# Altium schematic symbol library SDEC944-xC.SCHLIB: 133 symbols (part 1 of 2)
Pins are listed as number, name and electrical type; pins without a type are passive.

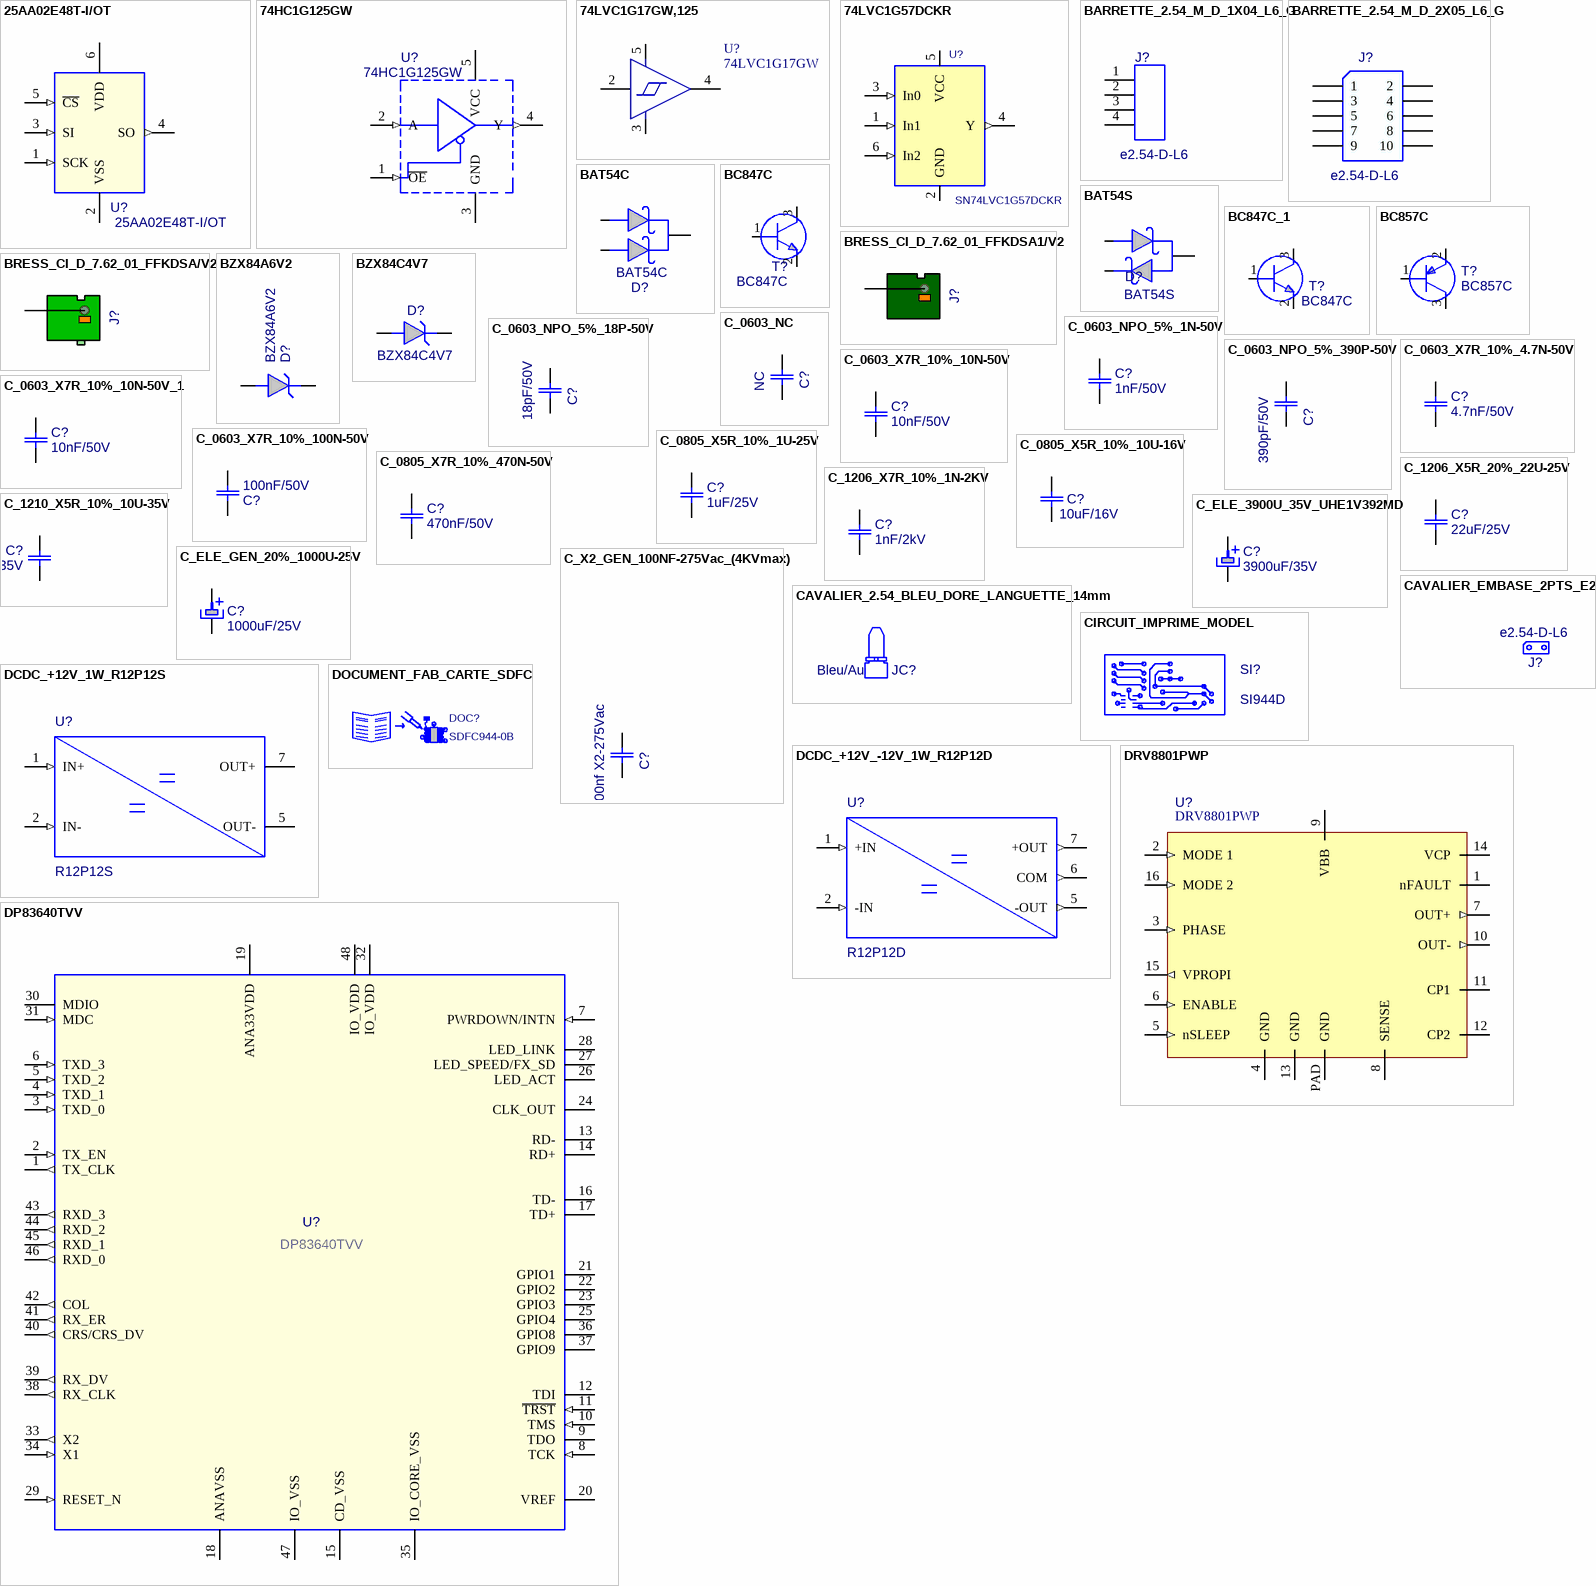
[diagram p0: symbols 25AA02E48T-I/OT to DRV8801PWP]

## 25AA02E48T-I/OT
designator U?
EEPROM, avec identifiant EUI-48 (adresse MAC), 2kbits, Vs=1.8~5.5V, 10MHz, CMS; Creation: CHD(10/03/09); Verification: LJ; Reference: 000492/00; Boitier: SOT23_6L; Coeff: 1; Fabricant: Microchip; Remarque: *; ComponentLink1URL: o:\_Documentation\Datasheets\MicroChip\25AA02E48.pdf; ComponentLink2URL: o:\_Documentation\Datasheets\_Boitiers\ACTIF_CMS\SOT & TSOT\SOT23_6_(Schneider).pdf; Config: *; ComponentLink1Description: Datasheet; ComponentLink2Description: Datasheet Boitier; Ref Fab: 25AA02E48T-I/OT; Value: 25AA02E48T-I/OT
footprint SOT23_6L
pins: 1 SCK (in), 2 VSS (power), 3 SI (in), 4 SO (out), 5 ~{CS} (in), 6 VDD (power)

## 74HC1G125GW
designator U?
Buffer driver de ligne non-inverseur simple, 3 états, CMOS, Picogate, CMS; Creation: PDP (28/09/12); Boitier: SOT353; Remarque: {Remarque}; Coeff: 1; Fabricant: NXP; Verification: *; ComponentLink1URL: o:\_Documentation\Datasheets\NXP\74HC_HCT1G125.pdf; ComponentLink2URL: o:\_Documentation\Datasheets\_Boitiers\ACTIF_CMS\SOT & TSOT\SOT353_5_reflow_(NXP).pdf; Config: *; ComponentLink1Description: Datasheet; ComponentLink2Description: Datasheet Boitier; Ref Fab: 74HC1G125GW; Supplier 1: Mouser; Supplier Part Number 1: 771-74HC1G125GW-G; Supplier 2: Farnell; Supplier Part Number 2: 1867065; Value: 74HC1G125GW
footprint SOT353
pins: 1 hidden, 1 ~{OE} (in), 2 A (in), 3 GND (power), 4 Y (out), 5 VCC (power)

## 74LVC1G17GW,125
designator U?, comment 74LVC1G17GW
IC BUFFER SCHMIT TRIG SOT23-5; Manufacturer: NXP Semiconductors; Manufacturer Part Number: 74LVC1G17GW,125; Logic Type: Buffer, Non-Inverting; Number of Elements: 1; Input Type: Schmitt Trigger; Output Type: Push-Pull; Current - Output High, Low: 32mA, 32mA; Voltage - Supply: 1.65 V ~ 5.5 V; Supplier 1: Digi-Key; RoHS: RoHS Compliant; Category: Integrated Circuits (ICs); Stock 1: 36642; Pricing 1: 1=0.32, 10=0.258, 100=0.1368, 500=0.08994, 1000=0.06128 (USD); Packaging: Cut Tape (CT); Part Status: Active; Number of Bits per Element: 1; Operating Temperature: -40°C ~ 125°C (TA); Mounting Type: Surface Mount; Package / Case: 5-TSSOP, SC-70-5, SOT-353; Supplier Device Package: 5-TSSOP; ComponentLink1URL: http://www.nxp.com/documents/data_sheet/74LVC1G17.pdf; ComponentLink1Description: http://www.nxp.com/documents/data_sheet/74LVC1G17.pdf; Supplier Part Number 1: 568-4613-1-ND
footprint SOT353
pins: 1 NC, 2 A, 3 VCC, 4 Y, 5 VCC

## 74LVC1G57DCKR
designator U?  value SN74LVC1G57DCKR  (hidden comment: 74LVC1G57DCKR)
Porte logique multifonction, AND/OR/NAND/NOR/XNOR/INV/BUFFER, LVC, CMS SC70_6; Creation: PDP (31/08/2012); Remarque: {Remarque}; Coeff: 1; Fabricant: Texas Instruments; Verification: *; Boitier: SC70_6; ComponentLink1URL: o:\_Documentation\Datasheets\Texas\SN74LVC1G57.pdf; ComponentLink2URL: o:\_Documentation\Datasheets\_Boitiers\ACTIF_CMS\SC\SC70_6_e0,65_(NSC).pdf; Config: *; ComponentLink1Description: Datasheet; ComponentLink2Description: Datasheet Boitier; Ref Fab: SN74LVC1G57DCKR; Supplier 1: Farnell; Supplier Part Number 1: 1470833; Supplier 2: Mouser; Supplier Part Number 2: 595-SN74LVC1G57DCKR
footprint SC70_6
pins: 1 In1 (in), 2 GND (power), 3 In0 (in), 4 Y (out), 5 VCC (power), 6 In2 (in)

## BARRETTE_2.54_M_D_1X04_L6_G
designator J?  value e2.54-D-L6  (hidden comment: BARRETTE_2.54_M_D_1X04_L6_G)
Barrette, e2.54, mâle, 1x4 picots 0.635², droit, long. contact 6, isol. 2.6mm, doré; Creation: LJ; Reference: 000048/04; Boitier: 1x04_e2.54_drt_L6mm; Remarque: Longueur contact idéale pour accueillir HE10; Verification: LJ (13/11/03); Coeff: 1; Fabricant: Samtec; Ref Fab: TSW-104-24-L-S; ComponentLink1URL: o:\_Documentation\Datasheets\Samtec\TSW_TH.PDF; Config: *; ComponentLink1Description: Datasheet; ComponentLink2Description: Datasheet Boitier; Supplier 1: Farnell; Supplier Part Number 1: 2039591
footprint BAR_M_1X04D_L6_IS2.6_E2.54_G
pins: 1, 2, 3, 4

## BARRETTE_2.54_M_D_2X05_L6_G
designator J?  value e2.54-D-L6  (hidden comment: BARRETTE_2.54_M_D_2X05_L6_G)
Barrette, e2.54, mâle, 2x5 picots 0.635², droit, long. contact 6, isol. 2.6mm, doré; Creation: LJ; Reference: 000221/05; Boitier: 2x5_e2.54_drt_L6mm; Remarque: Longueur contact idéale pour accueillir HE10; Verification: LJ (13/11/03); Coeff: 1; Fabricant: Samtec; Ref Fab: TSW-105-24-L-D; ComponentLink1URL: o:\_Documentation\Datasheets\Samtec\TSW_TH.PDF; Config: *; ComponentLink1Description: Datasheet; ComponentLink2Description: Datasheet Boitier; Supplier 1: Farnell; Supplier Part Number 1: 2029785
footprint BAR_M_2X05D_L6_IS2.6_E2.54_G
pins: 1, 2, 3, 4, 5, 6, 7, 8, 9, 10

## BAT54C
designator D?
Diode Schottky double, BAT54 cathode com, Vrrm=30V, If=300mA, Vf=0.4Vmax, CMS; Creation: LJ (14/05/02); Reference: 000597/00; Boitier: SOT23_3L; Remarque: {Remarque}; Coeff: 1; Fabricant: NXP; Verification: LJ (14/05/02); ComponentLink1URL: O:\_Documentation\Datasheets\NXP\BAT54_series.pdf; ComponentLink2URL: o:\_Documentation\Datasheets\_BOITIERS\ACTIF_CMS\SOT\SOT_23_3P_(Schneider).PDF; Config: *; ComponentLink1Description: Datasheet; ComponentLink2Description: Datasheet Boitier; Ref Fab: BAT54C; Supplier 1: Farnell; Supplier Part Number 1: 1081192; Value: BAT54C
footprint SOT23_3L_ReflowSoldering
footprint SOT23_3L_WaveSoldering
pins: 1, 2, 3
1 alternate drawing of the same symbol

## BAT54S
designator D?
Diode Schottky double, BAT54 en série, Vrrm=30V, If=200mA, Vf=0.4Vmax, CMS; Creation: JMP 05/09/2002; Verification: GO (26/09/02); Reference: 000206/00; Boitier: SOT23_3L; Remarque: {Remarque}; Coeff: 1; Fabricant: NXP; ComponentLink1URL: O:\_Documentation\Datasheets\NXP\BAT54_series.pdf; ComponentLink2URL: o:\_Documentation\Datasheets\_BOITIERS\ACTIF_CMS\SOT\SOT_23_3P_(Schneider).PDF; Config: *; ComponentLink1Description: Datasheet; ComponentLink2Description: Datasheet Boitier; Ref Fab: BAT54S; Supplier 1: Farnell; Supplier Part Number 1: 1081194; Value: BAT54S; Supplier 2: Mouser; Supplier Part Number 2: 771-BAT54S-T/R
footprint SOT23_3L_ReflowSoldering
footprint SOT23_3L_WaveSoldering
pins: 1, 2, 3
1 alternate drawing of the same symbol

## BC847C
designator T?
Transistor NPN, Vce=50V, Ic=0.1A, hfe=420~800, 0.25W, CMS; Creation: GO (08/07/05); Verification: LJ (21/07/05); Reference: 000329/00; Boitier: SOT23_3L; Remarque: Complementaires aux BC856-860; Fabricant: NXP; Coeff: 1; Ref Fab: BC847C; ComponentLink1URL: O:\_Documentation\Datasheets\NXP\BC847.pdf; ComponentLink2URL: o:\_Documentation\Datasheets\_BOITIERS\ACTIF_CMS\SOT\SOT_23_3P_(Schneider).PDF; Config: *; ComponentLink1Description: Datasheet; Value: BC847C; Supplier 1: Farnell; Supplier Part Number 1: 1081235; ComponentLink2Description: Datasheet Boitier
footprint SOT23_3L_ReflowSoldering
footprint SOT23_3L_WaveSoldering
pins: 1 B, 2 E, 3 C

## BC847C_1
designator T?, comment BC847C
Transistor NPN, Vce=50V, Ic=0.1A, hfe=420~800, 0.25W, CMS; Creation: GO (08/07/05); Verification: LJ (21/07/05); Reference: 000329/00; Boitier: SOT23_3L; Remarque: Complementaires aux BC856-860; Fabricant: NXP; Coeff: 1; Ref Fab: BC847C; ComponentLink1URL: O:\_Documentation\Datasheets\NXP\BC847.pdf; ComponentLink2URL: o:\_Documentation\Datasheets\_BOITIERS\ACTIF_CMS\SOT\SOT_23_3P_(Schneider).PDF; Config: *; ComponentLink1Description: Datasheet; Value: BC847C; Supplier 1: Farnell; Supplier Part Number 1: 1081235; ComponentLink2Description: Datasheet Boitier
footprint SOT23_3L_ReflowSoldering
pins: 1 B, 2 E, 3 C

## BC857C
designator T?
Transistor PNP, Vce=45V, Ic=0.1A, hfe=420~800, 0.3W, CMS; Creation: LJ; Verification: LJ (27/10/03); Reference: 000483/00; Boitier: SOT23_3L; Remarque: Complementaires aux BC846-850; Coeff: 1; Fabricant: NXP; ComponentLink1URL: O:\_Documentation\Datasheets\NXP\BC856_BC857_BC858.pdf; ComponentLink2URL: o:\_Documentation\Datasheets\_BOITIERS\ACTIF_CMS\SOT\SOT_23_3P_(Schneider).PDF; Config: *; ComponentLink1Description: Datasheet; Ref Fab: BC857C; ComponentLink2Description: Datasheet Boitier; Supplier 1: Farnell; Supplier Part Number 1: 8734771; Value: BC857C
footprint SOT23_3L_ReflowSoldering
footprint SOT23_3L_WaveSoldering
pins: 1 B, 2 E, 3 C

## BRESS_CI_D_7.62_01_FFKDSA1/V2
designator J?  (value not drawn)
Bornier à connexion par ressorts/déconnexion par levier, série FFKDSA1/V2, e7.62, 1x1pts, droit, juxtaposable, 500V/17.5A, AWG22~16, Vert/Orange; Creation: LJ (21/11/11); Boitier: 7.62x10_h15.8_e7.62_p1.3mm; Remarque: {Remarque}; Fabricant: Phoenix Contact; Ref Fab: 1790487; Coeff: 1; Value: FFKDSA1/V2-7,62; Verification: *; ComponentLink1URL: o:\_Documentation\Datasheets\Phoenix\FFKDSA1-V2_7,62_1790487.pdf; ComponentLink2URL: o:\_Documentation\Datasheets\_BOITIERS\; Config: *; ComponentLink1Description: Datasheet; ComponentLink2Description: Datasheet
footprint BRESS_FFKDSA1/V2-7,62_P1.3
footprint BRESS_FFKDSA1/V2-7,62_P1.4
footprint BRESS_FFKDSA1/V2-7,62_P1.3_PAD_REDUIT (taille de pad reduit)
pins: 1, 2

## BRESS_CI_D_7.62_01_FFKDSA/V2
designator J?  (value not drawn)
Bornier à connexion par ressorts/déconnexion par levier, série FFKDSA/V2, e7.62, 1x1pts, droit, juxtaposable, 500V/17.5A, AWG22~16, Vert/Orange; Creation: LJ (21/11/11); Boitier: 7.62x10_h15.8_e7.62_p1.3mm; Remarque: {Remarque}; Fabricant: Phoenix Contact; Ref Fab: 1790377; Coeff: 1; Value: FFKDSA/V2-7,62; Verification: *; ComponentLink1URL: o:\_Documentation\Datasheets\Phoenix\FFKDSA-V2_7,62_1790377.pdf; ComponentLink2URL: o:\_Documentation\Datasheets\_BOITIERS\; Config: *; ComponentLink1Description: Datasheet; ComponentLink2Description: Datasheet
footprint BRESS_FFKDSA/V2-7,62_P1.3
footprint BRESS_FFKDSA/V2-7,62_P1.4
pins: 1, 2

## BZX84A6V2
designator D?
Diode Zener, série BZX84A, 0.3W, +/-5%, 6.2V, CMS; Creation: PDP (19/09/12); Boitier: SOT23_3L; Remarque: {Remarque}; Coeff: 1; Fabricant: NXP; ComponentLink1URL: o:\_Documentation\Datasheets\NXP\BZX84_SERIES.pdf; ComponentLink2URL: o:\_Documentation\Datasheets\_BOITIERS\ACTIF_CMS\SOT\SOT_23_3P_(Schneider).PDF; Config: *; ComponentLink1Description: Datasheet; ComponentLink2Description: Datasheet Boitier; Ref Fab: BZX84A6V2; Supplier 1: Mouser; Supplier Part Number 1: 771-BZX84-A6V2,215; Value: BZX84A6V2
footprint SOT23_3L_ReflowSoldering
footprint SOT23_3L_WaveSoldering
pins: 1, 2 hidden, 3

## BZX84C4V7
designator D?
Diode Zener, série BZX84C, 0.3W, +/-5%, 4.7V, CMS; Creation: LJ; Verification: LJ (25/02/02); Reference: 000212/00; Boitier: SOT23_3L; Remarque: {Remarque}; Coeff: 1; Fabricant: NXP; ComponentLink1URL: o:\_Documentation\Datasheets\NXP\BZX84_SERIES.pdf; ComponentLink2URL: o:\_Documentation\Datasheets\_BOITIERS\ACTIF_CMS\SOT\SOT_23_3P_(Schneider).PDF; Config: *; ComponentLink1Description: Datasheet; ComponentLink2Description: Datasheet Boitier; Ref Fab: BZX84C4V7; Supplier 1: Farnell; Supplier Part Number 1: 1081428; Supplier 2: Mouser; Supplier Part Number 2: 771-BZX84-C4V7-T/R; Value: BZX84C4V7
footprint SOT23_3L_ReflowSoldering
footprint SOT23_3L_WaveSoldering
pins: 1, 2 hidden, 3

## C_0603_NC
designator C?  value NC  (hidden comment: C_0603_NC)
Condensateur, CMS 0603, NC; Creation: PDP (30/08/12); Boitier: 0603; Coeff: 1; ComponentLink2URL: o:\_Documentation\Datasheets\_BOITIERS\PASSIF_CMS\; ComponentLink2Description: Datasheet Boitier
footprint 0603_ReflowSoldering_CAP
footprint 0603_WaveSoldering_CAP
pins: 1, 2

## C_0603_NPO_5%_1N-50V
designator C?  value 1nF/50V  (hidden comment: C_0603_NPO_5%_1N-50V)
Condensateur céramique, NPO, 5%, CMS 0603; Creation: LJ; Reference: 001809/00; Boitier: 0603; Remarque: {Remarque}; Coeff: 1; Fabricant: AVX; Ref Fab: 06035A102JAT2A; ComponentLink1URL: o:\_Documentation\Datasheets\BC_Components\Condo_CMS_NPO-X7R-Y5V.pdf; ComponentLink2URL: o:\_Documentation\Datasheets\_BOITIERS\PASSIF_CMS\; Config: *; ComponentLink1Description: Datasheet; ComponentLink2Description: Datasheet Boitier; Supplier 1: Mouser; Supplier Part Number 1: 581-06035A102J
footprint 0603_ReflowSoldering_CAP
footprint 0603_WaveSoldering_CAP
pins: 1, 2

## C_0603_NPO_5%_18P-50V
designator C?  value 18pF/50V  (hidden comment: C_0603_NPO_5%_18P-50V)
Condensateur céramique, NPO, 5%, CMS 0603, 18pF/50V; Creation: FB (04/07/12); Boitier: 0603; Remarque: {Remarque}; Fabricant: Kemet; Ref Fab: C0603C180J5GAC; Coeff: 1; ComponentLink2URL: o:\_Documentation\Datasheets\_BOITIERS\PASSIF_CMS\; Config: *; ComponentLink1Description: Datasheet; ComponentLink2Description: Datasheet Boitier; Supplier 1: Farnell; Supplier Part Number 1: 1414620
footprint 0603_ReflowSoldering_CAP
footprint 0603_WaveSoldering_CAP
pins: 1, 2

## C_0603_NPO_5%_390P-50V
designator C?  value 390pF/50V  (hidden comment: C_0603_NPO_5%_390P-50V)
Condensateur céramique, NPO, 5%, CMS 0603; Creation: CHD; Boitier: 0603; Remarque: {Remarque}; Coeff: 1; Fabricant: Kemet; Ref Fab: C0603C391J5GAC; ComponentLink1URL: o:\_Documentation\Datasheets\Kemet\Condos_Ceramic_CMS.pdf; ComponentLink2URL: o:\_Documentation\Datasheets\_BOITIERS\PASSIF_CMS\; Config: *; ComponentLink1Description: Datasheet; ComponentLink2Description: Datasheet Boitier; Supplier 1: Farnell; Supplier 2: Mouser; Supplier Part Number 1: 1414638; Supplier Part Number 2: 80-C0603C391J5G
footprint 0603_ReflowSoldering_CAP
footprint 0603_WaveSoldering_CAP
pins: 1, 2

## C_0603_X7R_10%_4.7N-50V
designator C?  value 4.7nF/50V  (hidden comment: C_0603_X7R_10%_4.7N-50V)
Condensateur céramique, X7R, 10%, CMS 0603, 4,7nF/50V; Creation: PDP (30/08/12); Boitier: 0603; Remarque: {Remarque}; Fabricant: Kemet; Ref Fab: C0603C472K5RAC; Coeff: 1; ComponentLink1URL: O:\_Documentation\Datasheets\Kemet\Condos_Ceramic_CMS.pdf; ComponentLink2URL: o:\_Documentation\Datasheets\_BOITIERS\PASSIF_CMS\; Config: *; ComponentLink1Description: Datasheet; ComponentLink2Description: Datasheet Boitier; Supplier 1: Farnell; Supplier Part Number 1: 4528384; Supplier 2: Mouser; Supplier Part Number 2: 80-C0603C472K5RAUTO
footprint 0603_ReflowSoldering_CAP
footprint 0603_WaveSoldering_CAP
pins: 1, 2

## C_0603_X7R_10%_10N-50V
designator C?  value 10nF/50V  (hidden comment: C_0603_X7R_10%_10N-50V)
Condensateur céramique, X7R, 10%, CMS 0603; Creation: CHD; Boitier: 0603; Remarque: {Remarque}; Coeff: 1; Fabricant: Kemet; Ref Fab: C0603C103K5RAC; ComponentLink1URL: o:\_Documentation\Datasheets\Kemet\Condos_Ceramic_CMS.pdf; ComponentLink2URL: o:\_Documentation\Datasheets\_BOITIERS\PASSIF_CMS\; Config: *; ComponentLink1Description: Datasheet; ComponentLink2Description: Datasheet Boitier; Supplier 1: Farnell; Supplier Part Number 1: 1414609
footprint 0603_ReflowSoldering_CAP
footprint 0603_WaveSoldering_CAP
pins: 1, 2
1 alternate drawing of the same symbol

## C_0603_X7R_10%_10N-50V_1
designator C?, comment value 10nF/50V  (hidden comment: C_0603_X7R_10%_10N-50V)
Condensateur céramique, X7R, 10%, CMS 0603; Creation: CHD; Boitier: 0603; Remarque: {Remarque}; Coeff: 1; Fabricant: Kemet; Ref Fab: C0603C103K5RAC; ComponentLink1URL: o:\_Documentation\Datasheets\Kemet\Condos_Ceramic_CMS.pdf; ComponentLink2URL: o:\_Documentation\Datasheets\_BOITIERS\PASSIF_CMS\; Config: *; ComponentLink1Description: Datasheet; ComponentLink2Description: Datasheet Boitier; Supplier 1: Farnell; Supplier Part Number 1: 1414609
footprint 0603_ReflowSoldering_CAP
pins: 1, 2
1 alternate drawing of the same symbol

## C_0603_X7R_10%_100N-50V
designator C?  value 100nF/50V  (hidden comment: C_0603_X7R_10%_100N-50V)
Condensateur céramique, X7R, 10%, CMS 0603, 100nF/50V; Creation: FB (29/02/12); Boitier: 0603; Remarque: {Remarque}; Fabricant: Kemet; Ref Fab: C0603C104K5RAC; Coeff: 1; ComponentLink1URL: O:\_Documentation\Datasheets\Kemet\Condos_Ceramic_CMS.pdf; ComponentLink2URL: o:\_Documentation\Datasheets\_BOITIERS\PASSIF_CMS\; Config: *; ComponentLink1Description: Datasheet; ComponentLink2Description: Datasheet Boitier; Supplier 1: Farnell; Supplier Part Number 1: 1288255
footprint 0603_ReflowSoldering_CAP
footprint 0603_WaveSoldering_CAP
pins: 1, 2

## C_0805_X5R_10%_1U-25V
designator C?  value 1uF/25V  (hidden comment: C_0805_X5R_10%_1U-25V)
Condensateur céramique, X5R, 10%, CMS 0805; Creation: FB (07/03/12); Reference: 001834/00; Boitier: 0805; Remarque: {Remarque}; Coeff: 1; Fabricant: AVX; Ref Fab: 08053D105KAT2A; Verification: *; ComponentLink1URL: O:\_Documentation\Datasheets\AVX\Condensateurs_CMS_Ceramic_X5R.pdf; ComponentLink2URL: o:\_Documentation\Datasheets\_Boitiers\PASSIF_CMS\RC_0805_(2x1,25)_(Schneider).pdf; Config: *; ComponentLink1Description: Datasheet; ComponentLink2Description: Datasheet Boitier; Supplier Part Number 1: 1327695; Supplier Part Number 2: 6983409; Supplier 1: Farnell; Supplier 2: Radiospares
footprint 0805_ReflowSoldering_CAP
footprint 0805_WaveSoldering_CAP
pins: 1, 2

## C_0805_X5R_10%_10U-16V
designator C?  value 10uF/16V  (hidden comment: C_0805_X5R_10%_10U-16V)
Condensateur céramique, X5R, 10%, CMS 0805, 10uF/16V; Creation: FB (02/10/12); Boitier: 0805; Remarque: {Remarque}; Coeff: 1; Fabricant: Kemet; Ref Fab: C0805C106K4PAC; Verification: *; ComponentLink1URL: O:\_Documentation\Datasheets\Kemet\Condos_Ceramic_CMS.pdf; ComponentLink2URL: o:\_Documentation\Datasheets\_Boitiers\PASSIF_CMS\RC_0805_(2x1,25)_(Schneider).pdf; Config: *; ComponentLink1Description: Datasheet; ComponentLink2Description: Datasheet Boitier
footprint 0805_ReflowSoldering_CAP
footprint 0805_WaveSoldering_CAP
pins: 1, 2

## C_0805_X7R_10%_470N-50V
designator C?  value 470nF/50V  (hidden comment: C_0805_X7R_10%_470N-50V)
Condensateur céramique, X7R, 10%, CMS 0805, 470nF/50V; Creation: FB (02/10/12); Boitier: 0805; Remarque: {Remarque}; Coeff: 1; Fabricant: Kemet; Ref Fab: C0805C471K5RAC; Verification: *; ComponentLink1URL: O:\_Documentation\Datasheets\Kemet\Condos_Ceramic_CMS.pdf; ComponentLink2URL: o:\_Documentation\Datasheets\_BOITIERS\PASSIF_CMS\RC_0805_(2x1,25)_(Schneider).PDF; Config: *; ComponentLink1Description: Datasheet; ComponentLink2Description: Datasheet Boitier; Supplier 1: Mouser; Supplier Part Number 1: 80-C0805C471K5R
footprint 0805_ReflowSoldering_CAP
footprint 0805_WaveSoldering_CAP
pins: 1, 2

## C_1206_X5R_20%_22U-25V
designator C?  value 22uF/25V  (hidden comment: C_1206_X5R_20%_22U-25V)
Condensateur céramique, X5R, 20%, CMS 1206, 22uF/25V; Creation: ZA (18/12/13); Reference: /01; Boitier: 1206; Remarque: {Remarque}; Fabricant: TDK; Coeff: 1; Ref Fab: C3216X5R1E226M160AB; Verification: *; ComponentLink1URL: O:\_Documentation\Datasheets\TDK\general_B11.pdf; ComponentLink2URL: o:\_Documentation\Datasheets\_BOITIERS\PASSIF_CMS\; ComponentLink1Description: Datasheet; ComponentLink2Description: Datasheet Boitier; Supplier 1: Farnell; Supplier Part Number 1: 2354129; Supplier 2: Mouser; Supplier Part Number 2: 810-C3216X5R1E226M
footprint 1206_ReflowSoldering_CAP
footprint 1206_WaveSoldering_CAP
pins: 1, 2

## C_1206_X7R_10%_1N-2KV
designator C?  value 1nF/2kV  (hidden comment: C_1206_X7R_10%_1N-2KV)
Condensateur céramique, X7R, 10%, CMS 1206; Creation: LJ (29/06/10); Reference: 001425/00; Boitier: 1206; Remarque: {Remarque}; Coeff: 1; Fabricant: Kemet; Ref Fab: C1206C102KGRAC; ComponentLink1URL: O:\_Documentation\Datasheets\Kemet\Condos_Ceramic_HighVoltage_CMS.pdf; ComponentLink2URL: o:\_Documentation\Datasheets\_Boitiers\PASSIF_CMS\; Config: *; ComponentLink1Description: Datasheet; ComponentLink2Description: Datasheet Boitier
footprint 1206_ReflowSoldering_CAP
footprint 1206_WaveSoldering_CAP
pins: 1, 2

## C_1210_X5R_10%_10U-35V
designator C?  value 10uF/35V  (hidden comment: C_1210_X5R_10%_10U-35V)
Condensateur céramique, X5R, 10%, CMS 1210; Creation: LJ (09/02/09); Reference: 000265/00; Boitier: 1210; Remarque: {Remarque}; Coeff: 1; Fabricant: Taiyo Yuden; Ref Fab: GMK325BJ106KN-T; Verification: *; ComponentLink1URL: o:\_Documentation\Datasheets\TaiyoYuden\High_Value_Multilayer_Ceramic_Caps.pdf; ComponentLink2URL: o:\_Documentation\Datasheets\_Boitiers\PASSIF_CMS\C_1210_(3,2x2,5)_(Schneider).pdf; Config: *; ComponentLink1Description: Datasheet; ComponentLink2Description: Datasheet Boitier
footprint 1210_ReflowSoldering_CAP
footprint 1210_WaveSoldering_CAP
pins: 1, 2

## C_ELE_3900U_35V_UHE1V392MD
designator C?  value 3900uF/35V  (hidden comment: C_ELE_3900U_35V_UHE1V392MD)
Condensateurs électrolytiques aluminium traversant 35volts 3900uF 105c 18x40 P7.5; Creation: PDP (02/12/10); Boitier: 18x40mm p7.5mm; Remarque: {Remarque}; Fabricant: Nichicon; Ref Fab: UHE1V392MHD; Coeff: 1; Config: *; ComponentLink1Description: Datasheet; ComponentLink1URL: O:\_Documentation\Datasheets\Nichicon\e-he nichicon.pdf; ComponentLink2Description: Datasheet Boitier; ComponentLink2URL: o:\_Documentation\Datasheets\_BOITIERS\; Supplier 1: Mouser; Supplier Part Number 1: 647-UHE1V392MHD
footprint CAP_ELE_18X40_E7.5MM
pins: 1, 2

## C_ELE_GEN_20%_1000U-25V
designator C?  value 1000uF/25V  (hidden comment: C_ELE_GEN_20%_1000U-25V)
Condensateur Electro, ultra Low ESR (31mR@100kHz), +/-20%, 7000h, 1.9ARms, -40/+105°C; Creation: ZA (12/04/13); Boitier: d10_h31.5_e5mm; Remarque: {Remarque}; Fabricant: Nichicon; Ref Fab: UHE1E102MPD; Coeff: 1; Verification: *; Reference: *; Config: *; ComponentLink1Description: Datasheet; ComponentLink1URL: o:\_Documentation\Datasheets\Nichicon\e-he_nichicon.pdf; ComponentLink2Description: Datasheet Boitier; ComponentLink2URL: o:\_Documentation\Datasheets\_BOITIERS\; Supplier 1: Farnell; Supplier Part Number 1: 1823555; Supplier 2: Mouser; Supplier Part Number 2: 647-UHE1E102MPD
footprint CAP_ELE_10X31.5_E5.08MM
pins: 1, 2

## C_X2_GEN_100NF-275Vac_(4KVmax)
designator C?  value 100nf X2-275Vac  (hidden comment: C_X2_GEN_100NF-275Vac_(4KVmax))
Condensateur polypropylene métallisé X2, 20%,100nF/275Vac,-40/+110°C, radial; Creation: ZA (02/10/12); Reference: 001910/00; Boitier: 17.5x5_h12_e15_p0.9mm; Remarque: existe en 10%; Fabricant: Panasonic; Ref Fab: ECQUAAF104M; Coeff: 1; ComponentLink1URL: o:\_Documentation\Datasheets\Panasonic\CONDO_SERIE_ECQUA_X2.pdf; ComponentLink2URL: o:\_Documentation\Datasheets\Panasonic\CONDO_SERIE_ECQUA_X2.pdf; ComponentLink1Description: Datasheet; ComponentLink2Description: Datasheet Boitier; Supplier 1: Mouser; Supplier Part Number 1: 667-ECQ-UAAF104M; Supplier 2: Farnell; Supplier Part Number 2: 1907246
footprint CAP_S_5X17.5_E15MM
pins: 1, 2

## CAVALIER_2.54_BLEU_DORE_LANGUETTE_14mm
designator JC?  value Bleu/Au  (hidden comment: CAVALIER_2.54_BLEU_DORE_LANGUETTE_14mm)
Cavalier (Jumper) doré 2 points pour barrette au pas de 2.54mm, BLEU, avec languette, Hauteur globale 14mm, 3A, 250V; Creation: ZA (07/11/12); Boitier: 5.08x2.54_h14_e2.54mm; Remarque: {Remarque}; Coeff: 1; Fabricant: Harwin; Ref Fab: M7683-05; ComponentLink1URL: o:\_Documentation\Datasheets\Harwin\M7680-M7683.pdf; ComponentLink2URL: o:\_Documentation\Datasheets\Harwin\M7680-M7683.pdf; Config: *; ComponentLink2Description: Datasheet Boitier; ComponentLink1Description: Datasheet; Supplier 1: Farnell; Supplier Part Number 1: 3218466; Supplier 2: Mouser; Supplier Part Number 2: 855-M7683-05
footprint NULL

## CAVALIER_EMBASE_2PTS_E2.54
designator J?  value e2.54-D-L6  (hidden comment: CAVALIER_EMBASE_2PTS_E2.54)
Barrette, e2.54, mâle, 1x2 picots 0.635², droit, long. contact 6, isol. 2.6mm, doré; Creation: LJ; Reference: 000048/02; Boitier: 1x02_e2.54_drt_L6mm; Remarque: Longueur contact idéale pour accueillir HE10; Verification: LJ (13/11/03); Coeff: 1; Fabricant: Samtec; Ref Fab: TSW-102-24-L-S; ComponentLink1URL: o:\_Documentation\Datasheets\Samtec\TSW_TH.PDF; Config: *; ComponentLink1Description: Datasheet; ComponentLink2Description: Datasheet Boitier
footprint BAR_M_1X02D_L6_IS2.6_E2.54_G
pins: 1, 2
1 alternate drawing of the same symbol

## CIRCUIT_IMPRIME_MODEL
designator SI?, comment SI944D
Circuit Imprimé Seccom; Creation: LJ; Verification: LJ (15/11/04); Remarque: {Remarque}; Coeff: 1; Value: *; Boitier: *; Fabricant: *; Ref Fab: *; ComponentLink1URL: \\SRV_backup\datasheet\; ComponentLink2URL: \\SRV_backup\datasheet\_BOITIERS\; Config: *; ComponentLink1Description: Datasheet; ComponentLink2Description: Datasheet Boitier; Reference: SI944D
footprint CIRCUIT_IMPRIME_SI_STD

## DCDC_+12V_1W_R12P12S
designator U?  value R12P12S  (hidden comment: DCDC_+12V_1W_R12P12S)
Convertisseur DC/DC, 1W, Vin=12V, Vout=+12V/84mA, boitier SIP4, isol 6.4kV; Creation: LJ (11/06/12); Boitier: DCDC_SIP_19.5x9.8_h12.5mm; Coeff: 1; Fabricant: Recom; Verification: *; ComponentLink1URL: o:\_Documentation\Datasheets\Recom\Convertisseur_DCDC_RxxPxx.pdf; ComponentLink2URL: o:\_Documentation\Datasheets\_BOITIERS\; ComponentLink1Description: Datasheet; ComponentLink2Description: Datasheet Boitier; Ref Fab: R12P12S; Supplier 1: Mouser; Supplier Part Number 1: 919-R12P12S
footprint DCDC_SIP_1W_19.5x9.8_h12.5_R12P12S
pins: 1 IN+ (in), 2 IN- (in), 5 OUT-, 7 OUT+

## DCDC_+12V_-12V_1W_R12P12D
designator U?  value R12P12D  (hidden comment: DCDC_+12V_-12V_1W_R12P12D)
Convertisseur DC/DC, 1W, Vin=12V, +Vout=+12V/0.42A, -Vout=-12V/0.42A, boitier SIP7, Viso=6.4kV/1s; Creation: ZA (04/10/12); Boitier: DCDC_SIP_19.5x9.8_h12.5mm; Fabricant: Recom; Coeff: 1; Ref Fab: R12P12D; ComponentLink1URL: o:\_Documentation\Datasheets\Recom\Convertisseur_DCDC_RxxPxx.pdf; Config: *; ComponentLink1Description: Datasheet; ComponentLink2Description: Datasheet Boitier; Supplier 1: Mouser; Supplier Part Number 1: 919-R12P12D
footprint DCDC_SIP_1W_19.5x9.8_h12.5
pins: 1 +IN (in), 2 -IN (in), 5 -OUT (out), 6 COM (out), 7 +OUT (out)

## DOCUMENT_FAB_CARTE_SDFC
designator DOC?  Reference: SDFC944-0B  (hidden comment: DOCUMENT_FAB_CARTE_SDFC)  (mechanical)
Document de Fabrication pour la Carte SC{Num SC}-{Version SC}; Creation: LJ; Coeff: 0; Verification: *; Boitier: *; Fabricant: *; Ref Fab: *; Config: *; ComponentLink1URL: http://192.168.0.202/index.php/Accueil; ComponentLink2URL: http://192.168.0.202/index.php/Accueil; ComponentLink1Description: Datasheet; ComponentLink2Description: Datasheet Boitier

## DP83640TVV
designator U?
DP83640 Precision PHYTER - IEEE 1588 Precision Time Protocol Transceiver; Creation: FB (05/07/12); Boitier: LQFP48_e0.50_7x7mm; Remarque: {Remarque}; Coeff: 1; Fabricant: National Semiconductor; Ref Fab: DP83640TVV; ComponentLink1Description: Datasheet; ComponentLink1URL: o:\_Documentation\Datasheets\; ComponentLink2Description: Datasheet Boitier; ComponentLink2URL: o:\_Documentation\Datasheets\_BOITIERS\; Supplier 1: Farnell; Supplier Part Number 1: 1850292; Value: DP83640TVV
footprint QFP_048_E0,50_7X7MM
pins: 1 TX_CLK (out), 2 TX_EN (in), 3 TXD_0 (in), 4 TXD_1 (in), 5 TXD_2 (in), 6 TXD_3 (in), 7 PWRDOWN/INTN (in), 8 TCK (in), 9 TDO, 10 TMS (in), 11 ~{TRST} (in), 12 TDI, 13 RD-, 14 RD+, 15 CD_VSS (power), 16 TD-, 17 TD+, 18 ANAVSS (power), 19 ANA33VDD (power), 20 VREF, 21 GPIO1, 22 GPIO2, 23 GPIO3, 24 CLK_OUT, 25 GPIO4, 26 LED_ACT, 27 LED_SPEED/FX_SD, 28 LED_LINK, 29 RESET_N (in), 30 MDIO, 31 MDC (in), 32 IO_VDD (power), 33 X2 (out), 34 X1 (in), 35 IO_CORE_VSS (power), 36 GPIO8, 37 GPIO9, 38 RX_CLK (out), 39 RX_DV (out), 40 CRS/CRS_DV (out), 41 RX_ER (out), 42 COL (out), 43 RXD_3 (out), 44 RXD_2 (out), 45 RXD_1 (out), 46 RXD_0 (out), 47 IO_VSS (power), 48 IO_VDD (power)

## DRV8801PWP
designator U?
Brushed DC Motor Driver with Current Sense, 2.8A, CMS; Creation: PDP (31/08/12); Boitier: HTSSOP16_PowerPAD (R-PDSO-G16); Remarque: {Remarque}; Fabricant: Texas Instruments; Coeff: 1; Ref Fab: DRV8801PWP; ComponentLink1URL: O:\_Documentation\Datasheets\Texas\drv8801.pdf; ComponentLink2URL: O:\_Documentation\Datasheets\Texas\drv8801.pdf; Config: *; ComponentLink1Description: Datasheet; ComponentLink2Description: Datasheet Boitier; Value: DRV8801PWP; Supplier 1: Mouser; Supplier Part Number 1: 595-DRV8801PWP; Supplier 2: Farnell; Supplier Part Number 2: 1754826
footprint HTSSOP_016_E0,65_L4,4MM_PWP
pins: 1 nFAULT (oc), 2 MODE 1 (in), 3 PHASE (in), 4 GND (power), 5 nSLEEP (in), 6 ENABLE (in), 7 OUT+ (out), 8 SENSE, 9 VBB (power), 10 OUT- (out), 11 CP1, 12 CP2, 13 GND (power), 14 VCP, 15 VPROPI (out), 16 MODE 2 (in), PAD GND (power)

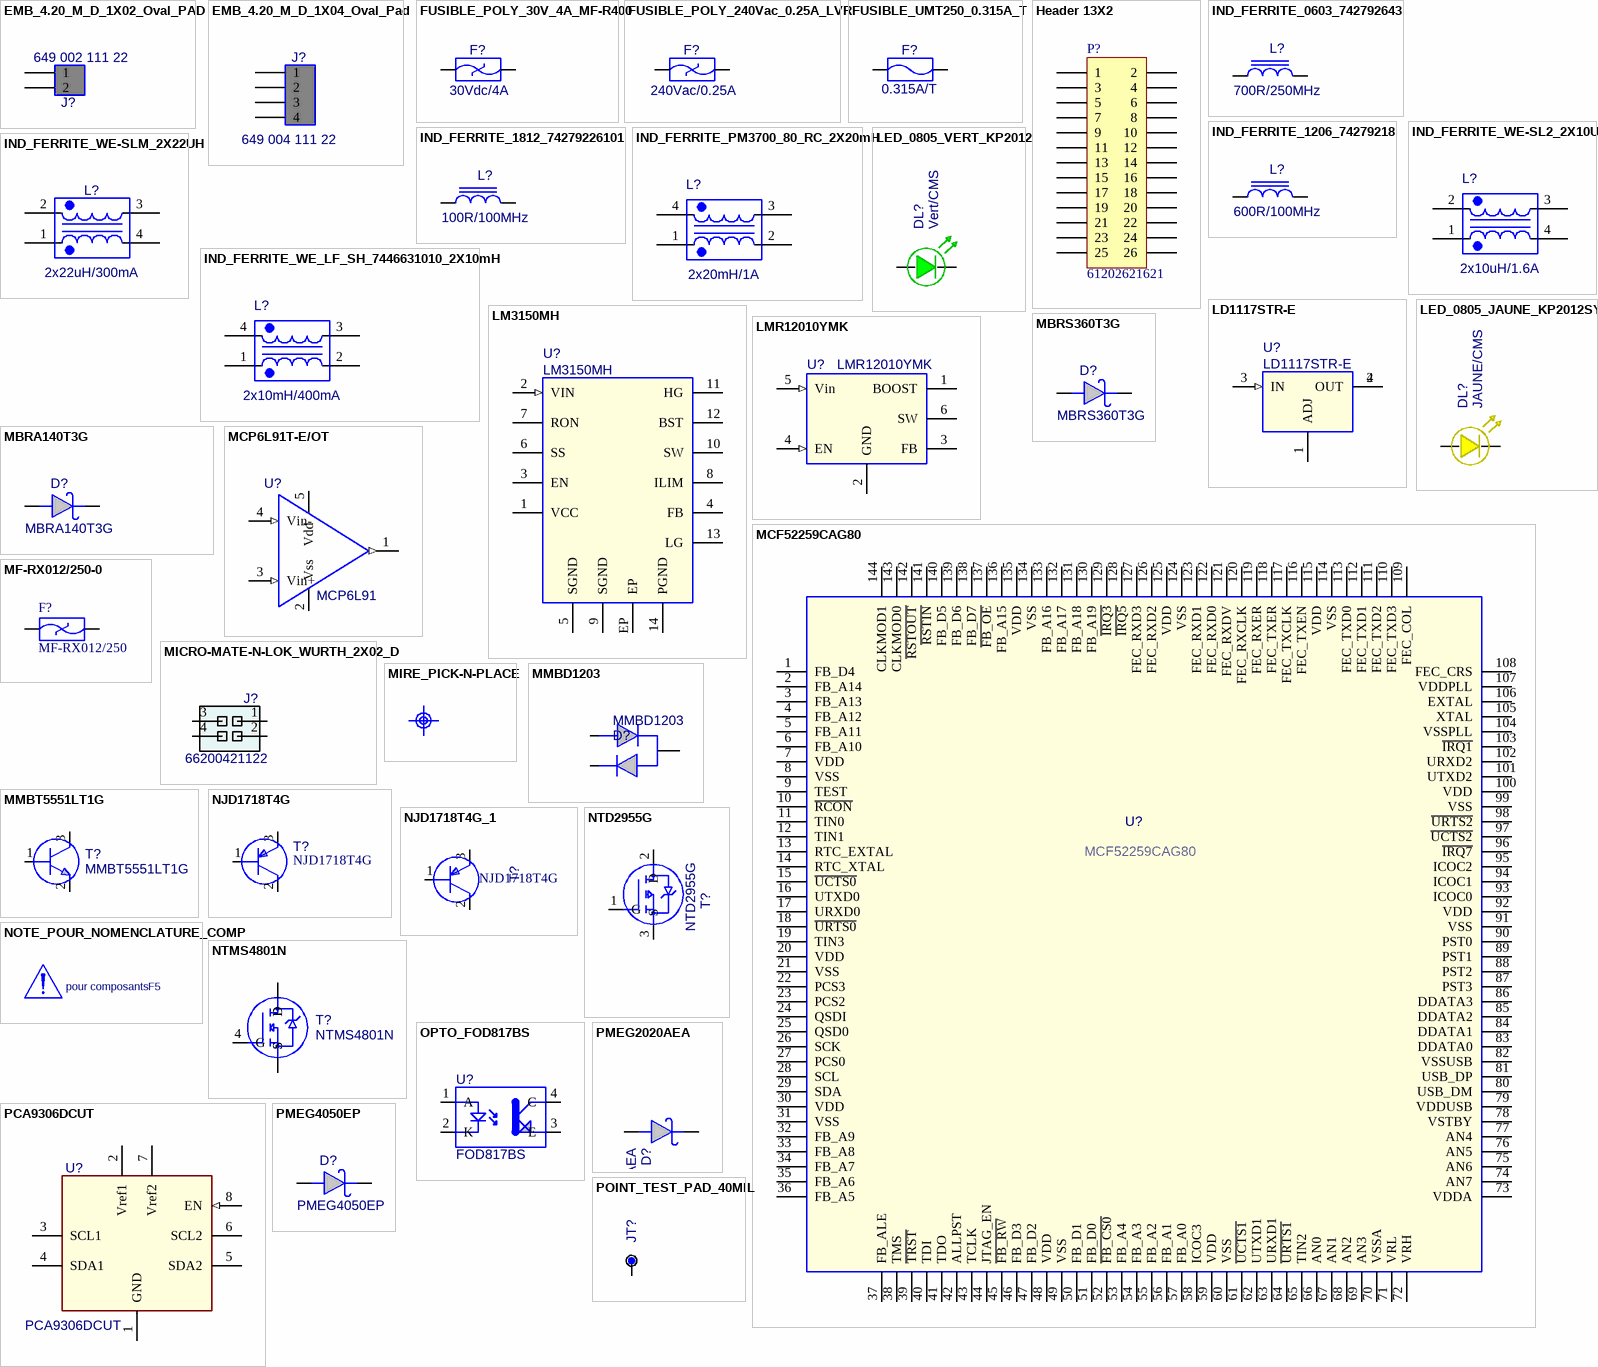
[diagram p1: symbols EMB_4.20_M_D_1X02_Oval_PAD to POINT_TEST_PAD_40MIL]

## EMB_4.20_M_D_1X02_Oval_PAD
designator J?  value 649 002 111 22  (hidden comment: EMB_4.20_M_D_1X02_Oval_PAD)
Connecteur Wurth, pas 4.2mm, 1x2 picots, 9A, 600V; Creation: ZA (04/10/12); Boitier: 9.6x5.4_h12.8mm; Coeff: 1; Fabricant: Wurth Electronik; Ref Fab: 64900211122; ComponentLink1URL: O:\_Documentation\Datasheets\Wurth_Elektronik\6490xx11122.pdf; Config: *; ComponentLink1Description: Datasheet; ComponentLink2Description: Datasheet Boitier; Supplier 1: Farnell; Supplier Part Number 1: 2113396
footprint WR_MPC4_1X02D_Oval_Pad
pins: 1, 2

## EMB_4.20_M_D_1X04_Oval_Pad
designator J?  value 649 004 111 22  (hidden comment: EMB_4.20_M_D_1X04_Oval_Pad)
Connecteur Wurth, pas 4.2mm, 1x4 picots, 8A; Creation: ZA (29/10/12); Boitier: 18x5.4_h12.8mm; Coeff: 1; Fabricant: Wurth Electronik; Ref Fab: 64900411122; ComponentLink1URL: O:\_Documentation\Datasheets\Wurth_Elektronik\6490xx11122.pdf; Config: *; ComponentLink1Description: Datasheet; ComponentLink2Description: Datasheet Boitier; Supplier 1: Farnell; Supplier Part Number 1: 2113398
footprint WR_MPC4_1X04D_Oval_PAD
pins: 1, 2, 3, 4

## FUSIBLE_POLY_30V_4A_MF-R400
designator F?  value 30Vdc/4A  (hidden comment: FUSIBLE_POLY_30V_4A_MF-R400)
Fusible Polyswitch, 30Vcc, Ihold=4A, Itrip=8A; Creation: ZA (31/10/12); Boitier: 14.4x3.1_e5.08mm; Remarque: {Remarque}; Coeff: 1; Fabricant: Bourns; Verification: *; ComponentLink1URL: o:\_Documentation\Datasheets\Bourns\POLYSWITCH_MFR.pdf; ComponentLink2URL: o:\_Documentation\Datasheets\_BOITIERS\; Config: *; ComponentLink1Description: Datasheet; ComponentLink2Description: Datasheet Boitier; Ref Fab: MF-R400; Supplier 1: Farnell; Supplier Part Number 1: 9350527; Supplier 2: Mouser; Supplier Part Number 2: 652-MFR400
footprint Fus_Poly_14.4x3_h24.8_e5.08
pins: 1, 2

## FUSIBLE_POLY_240Vac_0.25A_LVR
designator F?  value 240Vac/0.25A  (hidden comment: FUSIBLE_POLY_240Vac_0.25A_LVR)
Fusible Polyswitch série LVR, Vmax=265Vac, Ihold=0.25A, Itrip=0.56A, 1.5W; Creation: ZA (23/04/13); Boitier: type R8 : 11.4x3.8_e5.08mm, H19; Remarque: {Remarque}; Coeff: 1; Fabricant: TYCO Electronics; Ref Fab: LVR025K; Verification: *; Config: *; ComponentLink1Description: Datasheet; ComponentLink1URL: o:\_Documentation\Datasheets\Tyco\Tyco=TE Connectivity\Polyswitch_LVR.pdf; ComponentLink2Description: Datasheet Boitier; ComponentLink2URL: o:\_Documentation\Datasheets\_BOITIERS\; Supplier 1: Farnell; Supplier Part Number 1: 1175835; Supplier 2: Mouser; Supplier Part Number 2: 650-LVR025K-2
footprint Fus_Poly_11.4x3.8_h19_e5.8
pins: 1, 2

## FUSIBLE_UMT250_0.315A_T
designator F?  value 0.315A/T  (hidden comment: FUSIBLE_UMT250_0.315A_T)
Fusible CMS, série UMT250, à souder sur CI, 250Vca/125Vdc, 0.315A, Temporisé; Creation: PDP (26/09/12); Boitier: UMT250_(10.1x3mm); Remarque: Valeurs: de 80mA à 10A; Coeff: 1; Fabricant: Schurter; Ref Fab: 3403.0161; Config: *; ComponentLink1Description: Datasheet; ComponentLink1URL: O:\_Documentation\Datasheets\Schurter\Fusibles_CMS_UMT_250.pdf; ComponentLink2Description: Datasheet Boitier; ComponentLink2URL: o:\_Documentation\Datasheets\Littelfuse\449.pdf; Supplier 1: Mouser; Supplier Part Number 1: 693-3403.0161.11; Supplier 2: Farnell; Supplier Part Number 2: 1221084
footprint FUSIBLE_UMT250
pins: 1, 2

## Header 13X2
designator P?, comment 61202621621
26 Positions Header, Shrouded Connector 0.100" (2.54mm) Through Hole Gold; Manufacturer: Wurth Electronics Inc; Supplier 1: Digi-Key; Supplier Part Number 1: 732-2097-ND; Manufacturer Part Number: 61202621621
footprint IDC2p54_26P (Connector; Header; 13x2 Position)
signal-integrity model Connector
pins: 1, 2, 3, 4, 5, 6, 7, 8, 9, 10, 11, 12, 13, 14, 15, 16, 17, 18, 19, 20, 21, 22, 23, 24, 25, 26

## IND_FERRITE_0603_742792643
designator L?  value 700R/250MHz  (hidden comment: IND_FERRITE_0603_742792643)
Inductance à ferrite multicouches CMS, imp=700R@250MHz, +/-25%, Rdc=350mR, I=400mA; Creation: PDP (02/08/12); Boitier: 0603; Coeff: 1; Fabricant: Wurth Elektronik; ComponentLink1URL: o:\_Documentation\Datasheets\Murata\Ferrite_BLM21P.pdf; Config: *; ComponentLink1Description: Datasheet; ComponentLink2Description: Datasheet Boitier; Ref Fab: 742792643; Supplier 1: Farnell; Supplier Part Number 1: 1800349
footprint 0603_ReflowSoldering_CAP
pins: 1, 2

## IND_FERRITE_1206_74279218
designator L?  value 600R/100MHz  (hidden comment: IND_FERRITE_1206_74279218)
Inductance à ferrite multicouches CMS, imp=600R@100MHz, +/-25%, Rdc=100mR, I=2A; Creation: LJ (12/08/08); Reference: 000049/00; Boitier: 1206; Remarque: Alternative aux selfs de choc; Coeff: 1; Fabricant: Wurth Elektronik; Verification: *; ComponentLink1URL: o:\_Documentation\Datasheets\Wurth_Elektronik\74279218.pdf; ComponentLink2URL: o:\_Documentation\Datasheets\_Boitiers\PASSIF_CMS\RC_1206_(3,2x1,6)_(Schneider).pdf; Config: *; ComponentLink1Description: Datasheet; ComponentLink2Description: Datasheet Boitier; Ref Fab: 74279218
footprint 1206_ReflowSoldering_FERRITE
footprint 1206_WaveSoldering_FERRITE
pins: 1, 2

## IND_FERRITE_1812_74279226101
designator L?  value 100R/100MHz  (hidden comment: IND_FERRITE_1812_74279226101)
Inductance à ferrite multicouches CMS, imp=100R@>100MHz, +/-25%, Rdc=6mR, I=8A; Creation: PDP (20/09/12); Boitier: 1812; Coeff: 1; Fabricant: Wurth Elektronik; ComponentLink1URL: O:\_Documentation\Datasheets\Wurth_Elektronik\74279226101.pdf; Config: *; ComponentLink1Description: Datasheet; ComponentLink2Description: Datasheet Boitier; Ref Fab: 74279226101; Supplier 1: Mouser; Supplier Part Number 1: 710-74279226101; Supplier 2: Farnell; Supplier Part Number 2: 2066855
footprint 1812_ReflowSoldering_cap
footprint 1812_ReflowSoldering_SELF
pins: 1, 2

## IND_FERRITE_PM3700_80_RC_2X20mH
designator L?  value 2x20mH/1A  (hidden comment: IND_FERRITE_PM3700_80_RC_2X20mH)
Filtre double ferrite, 2x20mH, 250Vac, 1A, serie PM3700, -55/+125°C, CMS; Creation: ZA (12/04/13); Boitier: PM3700_17.78x11.43_h11.43mm; Coeff: 1; Fabricant: Bourns; Ref Fab: PM3700-80-RC; Verification: *; Reference: *; ComponentLink1URL: o:\_Documentation\Datasheets\Bourns\SELF_PM3700.pdf; ComponentLink2URL: o:\_Documentation\Datasheets\_BOITIERS\; Config: *; ComponentLink1Description: Datasheet; ComponentLink2Description: Datasheet Boitier; Supplier 1: Mouser; Supplier Part Number 1: 542-PM3700-80-RC; Supplier 2: RS; Supplier Part Number 2: 736-1141
footprint SELF_PM3700_17.78x11.43H11.43
pins: 1, 2, 3, 4

## IND_FERRITE_WE-SL2_2X10UH
designator L?  value 2x10uH/1.6A  (hidden comment: IND_FERRITE_WE-SL2_2X10UH)
Filtre double ferrite, 2x10uH, 42Vac/80Vdc, 1.6A, serie WE-SL2, -40/+125°C, CMS; Creation: FB (19/03/12); Boitier: WE-SL2_9.2x6_h5mm; Coeff: 1; Fabricant: Wurth Elektronik; Ref Fab: 744226; ComponentLink1URL: O:\_Documentation\Datasheets\Wurth_Elektronik\744226.pdf; ComponentLink2URL: o:\_Documentation\Datasheets\_BOITIERS\; Config: *; ComponentLink1Description: Datasheet; ComponentLink2Description: Datasheet Boitier; Supplier Part Number 1: 1636269; Supplier 1: Farnell; Supplier 2: Radiospares; Supplier Part Number 2: 3675045
footprint SELF_WE-SL2_9.2x6
pins: 1, 2, 3, 4

## IND_FERRITE_WE-SLM_2X22UH
designator L?  value 2x22uH/300mA  (hidden comment: IND_FERRITE_WE-SLM_2X22UH)
Filtre double ferrite, 2x22uH, 42Vac/80Vdc, 300mA, serie WE-SLM, -40/+125°C, CMS; Creation: PDP (26/09/12); Boitier: WE-SLM_6x3.3_h3.3mm; Coeff: 1; Fabricant: Wurth Elektronik; Ref Fab: 744242220; ComponentLink1URL: O:\_Documentation\Datasheets\Wurth_Elektronik\744242220-29314.pdf; ComponentLink2URL: o:\_Documentation\Datasheets\_BOITIERS\; Config: *; ComponentLink1Description: Datasheet; ComponentLink2Description: Datasheet Boitier; Supplier 1: Mouser; Supplier Part Number 1: 710-744242220; Supplier 2: Farnell; Supplier Part Number 2: 2082589
footprint SELF_WE-SLM_6x3.3H3.3mm
pins: 1, 2, 3, 4

## IND_FERRITE_WE_LF_SH_7446631010_2X10mH
designator L?  value 2x10mH/400mA  (hidden comment: IND_FERRITE_WE_LF_SH_7446631010_2X10mH)
Filtre double ferrite, 2x10mH, 250Vac, 400mA, serie WE-LF-SH, -25/+125°C, CMS; Creation: ZA (12/04/13); Boitier: WE-LF-SH_18.5x23.3_h11.5mm; Coeff: 1; Fabricant: Wurth Elektronik; Verification: *; Reference: *; ComponentLink1URL: o:\_Documentation\Datasheets\Wurth_Elektronik\7446631010.pdf; ComponentLink2URL: o:\_Documentation\Datasheets\_BOITIERS\; Config: *; ComponentLink1Description: Datasheet; ComponentLink2Description: Datasheet Boitier; Ref Fab: 7446631010
footprint SELF_WE-LF_SH_18.5x23.3H11.5mm
pins: 1, 2, 3, 4

## LD1117STR-E
designator U?
Régulateur de tension ajustable positif, 1.25~15V, 0.8A, LDO (1V), Vin=15Vmax, CMS; Creation: LJ (04/07/11); Reference: 001683/00; Boitier: SOT223; Remarque: {Remarque}; Coeff: 1; Fabricant: ST; ComponentLink2URL: o:\_Documentation\Datasheets\_Boitiers\ACTIF_CMS\SOT & TSOT\SOT223_4_(Schneider).pdf; Config: *; ComponentLink1URL: o:\_Documentation\Datasheets\ST\LD1117.pdf; ComponentLink1Description: Datasheet; ComponentLink2Description: Datasheet Boitier; Ref Fab: LD1117STR-E; Value: LD1117STR-E
footprint SOT223
pins: 1 ADJ (power), 2 OUT, 3 IN (in), 4 OUT

## LED_0805_JAUNE_KP2012SYC
designator DL?  value JAUNE/CMS  (hidden comment: LED_0805_JAUNE_KP2012SYC)
LED CMS 0805, Jaune, Vf 2V@20mA (36-100mCd), 590nm, vue 120°; Creation: JPL (04/07/12); Boitier: 0805; Remarque: {Remarque}; Coeff: 1; Fabricant: Kingbright; Ref Fab: KP-2012SYC; Verification: *; Config: *; ComponentLink1Description: Datasheet; ComponentLink2Description: Datasheet Boitier; Supplier 1: Farnell; Supplier Part Number 1: 8529914
footprint LED_0805_KPx_YELLOW
pins: A, K

## LED_0805_VERT_KP2012
designator DL?  value Vert/CMS  (hidden comment: LED_0805_VERT_KP2012)
LED CMS 0805, Vert, Vf 2.5V@20mA (4-15mCd), 525nm, vue 120°; Creation: LJ (12/01/09); Reference: 000037/00; Boitier: 0805; Remarque: {Remarque}; Coeff: 1; Fabricant: Kingbright; Ref Fab: KP-2012SGC; Verification: *; ComponentLink1URL: o:\_Documentation\Datasheets\Kingbright\Leds_0805_Green_KP-2012SGC.pdf; ComponentLink2URL: o:\_Documentation\Datasheets\Kingbright\Leds_0805_Green_KP-2012SGC.pdf; Config: *; ComponentLink1Description: Datasheet; ComponentLink2Description: Datasheet Boitier; Supplier 1: Farnell; Supplier Part Number 1: 1318243
footprint LED_0805_KPx_Green
pins: A, K
1 alternate drawing of the same symbol

## LM3150MH
designator U?, comment value LM3150MH  (hidden comment: LM3150)
Syncronous Buck Controller,  Vin=6~42V, -40/+125°C, CMS; Creation: PDP (20/09/12); Boitier: eTSSOP-14; Remarque: {Remarque}; Coeff: 1; Fabricant: National Semiconductor; ComponentLink1URL: \\SRV-MASTER\outils\_Documentation\Datasheets\National_SemiConductors\LM3150.pdf; ComponentLink2URL: o:\_Documentation\Datasheets\_Boitiers\ACTIF_CMS\; ComponentLink1Description: Datasheet; ComponentLink2Description: Datasheet Boitier; Ref Fab: LM3150MH; Supplier 1: Mouser; Supplier Part Number 1: 926-LM3150MH/NOPB
footprint eTSSOP_014_E0,65_L4,4MM
pins: 1 VCC, 2 VIN (in), 3 EN, 4 FB, 5 SGND (power), 6 SS, 7 RON, 8 ILIM, 9 SGND (power), 10 SW, 11 HG, 12 BST (power), 13 LG, 14 PGND (power), EP (power)

## LMR12010YMK
designator U?
Régulateur ajustable step down, 0.8~20V, 1A, Vin=3~20V, -40/+125°C, CMS; Creation: PDP (10/07/12); Verification: LJ (02/08/12); Boitier: TSOT-6; Remarque: {Remarque}; Coeff: 1; Fabricant: National Semiconductor; ComponentLink1URL: O:\_Documentation\Datasheets\National_SemiConductors\LMR12010.pdf; ComponentLink2URL: o:\_Documentation\Datasheets\_Boitiers\ACTIF_CMS\; ComponentLink1Description: Datasheet; ComponentLink2Description: Datasheet Boitier; Ref Fab: LMR12010YMK; Value: LMR12010YMK; Supplier 1: Farnell; Supplier Part Number 1: 2060645; Supplier 2: Mouser; Supplier Part Number 2: 926-LMR12010YMKENOPB
footprint SOT23_6L
pins: 1 BOOST, 2 GND (power), 3 FB, 4 EN (in), 5 Vin (in), 6 SW

## MBRA140T3G
designator D?
Diode Schottky, Vrrm=40V, If=1A, Vf=0.55V@1A, CMS; Creation: PDP (31/08/12); Boitier: DO214AC/SMA; Fabricant: ON Semiconductor; Coeff: 1; Ref Fab: MBRA140T3G; ComponentLink1URL: O:\_Documentation\Datasheets\ON_Semiconductors\MBRA140T3-D.PDF; ComponentLink2URL: O:\_Documentation\Datasheets\ON_Semiconductors\MBRA140T3-D.PDF; Config: *; ComponentLink1Description: Datasheet; ComponentLink2Description: Datasheet Boitier; Supplier 1: Farnell; Supplier Part Number 1: 9555986; Supplier 2: Mouser; Supplier Part Number 2: 863-MBRA140T3G; Value: MBRA140T3G
footprint DO214AC-SMA-P_WaveSoldering
footprint DO214AC-SMA-P_ReflowSoldering
pins: A, K

## MBRS360T3G
designator D?
Diode Schottky, Vrrm=60V, If=3A, Vf=0.74V, -65 à +175°C, CMS; Creation: ZA (16/04/13); Boitier: DO214AB/SMC; Fabricant: ON Semiconductor; Coeff: 1; Ref Fab: MBRS360T3G; ComponentLink1URL: O:\_Documentation\Datasheets\ON_Semiconductors\MBRS360T3G_NRVBS360T3G.PDF; ComponentLink2URL: O:\_Documentation\Datasheets\ON_Semiconductors\MBRS360T3G_NRVBS360T3G.PDF; Config: *; ComponentLink1Description: Datasheet; ComponentLink2Description: Datasheet Boitier; Supplier 1: Farnell; Supplier Part Number 1: 9556940; Supplier 2: Mouser; Supplier Part Number 2: 863-MBRS360T3G; Value: MBRS360T3G
footprint DO214AB-SMC-P_ReflowSoldering
footprint DO214AB-SMC-P_WaveSoldering
pins: A, K

## MCF52259CAG80
designator U?
Microcontrôleur 32bit, COLDFIRE, 80Mhz, 512Ko Flash, 64Ko RAM, CMS; Creation: FB (05/07/12); Boitier: LQFP144_e0.50_20x20mm; Remarque: {Remarque}; Coeff: 1; Fabricant: Freescale; Ref Fab: MCF52259CAG80; ComponentLink1Description: Datasheet; ComponentLink1URL: o:\_Documentation\Datasheets\; ComponentLink2Description: Datasheet Boitier; ComponentLink2URL: o:\_Documentation\Datasheets\_BOITIERS\; Supplier 1: Farnell; Supplier Part Number 1: 1698075; Value: MCF52259CAG80
footprint QFP_144_E0,50_20X20MM
pins: 1 FB_D4, 2 FB_A14, 3 FB_A13, 4 FB_A12, 5 FB_A11, 6 FB_A10, 7 VDD (power), 8 VSS (power), 9 TEST, 10 ~{RCON}, 11 TIN0, 12 TIN1, 13 RTC_EXTAL, 14 RTC_XTAL, 15 ~{UCTS0}, 16 UTXD0, 17 URXD0, 18 ~{URTS0}, 19 TIN3, 20 VDD (power), 21 VSS (power), 22 PCS3, 23 PCS2, 24 QSDI, 25 QSD0, 26 SCK, 27 PCS0, 28 SCL, 29 SDA, 30 VDD (power), 31 VSS (power), 32 FB_A9, 33 FB_A8, 34 FB_A7, 35 FB_A6, 36 FB_A5, 37 FB_ALE, 38 TMS, 39 ~{TRST}, 40 TDI, 41 TDO, 42 ALLPST, 43 TCLK, 44 JTAG_EN, 45 ~{FB_RW}, 46 FB_D3, 47 FB_D2, 48 VDD (power), 49 VSS (power), 50 FB_D1, 51 FB_D0, 52 ~{FB_CS0}, 53 FB_A4, 54 FB_A3, 55 FB_A2, 56 FB_A1, 57 FB_A0, 58 ICOC3, 59 VDD (power), 60 VSS (power), 61 ~{UCTS1}, 62 UTXD1, 63 URXD1, 64 ~{URTS1}, 65 TIN2, 66 AN0, 67 AN1, 68 AN2, 69 AN3, 70 VSSA (power), 71 VRL (power), 72 VRH (power), 73 VDDA (power), 74 AN7, 75 AN6, 76 AN5, 77 AN4, 78 VSTBY (power), 79 VDDUSB (power), 80 USB_DM, 81 USB_DP, 82 VSSUSB (power), 83 DDATA0, 84 DDATA1, 85 DDATA2, 86 DDATA3, 87 PST3, 88 PST2, 89 PST1, 90 PST0, 91 VSS (power), 92 VDD (power), 93 ICOC0, 94 ICOC1, 95 ICOC2, 96 ~{IRQ7}, 97 ~{UCTS2}, 98 ~{URTS2}, 99 VSS (power), 100 VDD (power), 101 UTXD2, 102 URXD2, 103 ~{IRQ1}, 104 VSSPLL (power), 105 XTAL, 106 EXTAL, 107 VDDPLL (power), 108 FEC_CRS, 109 FEC_COL, 110 FEC_TXD3, 111 FEC_TXD2, 112 FEC_TXD1, 113 FEC_TXD0, 114 VSS (power), 115 VDD (power), 116 FEC_TXEN, 117 FEC_TXCLK, 118 FEC_TXER, 119 FEC_RXER, 120 FEC_RXCLK, 121 FEC_RXDV, 122 FEC_RXD0, 123 FEC_RXD1, 124 VSS (power), 125 VDD (power), 126 FEC_RXD2, 127 FEC_RXD3, 128 ~{IRQ5}, 129 ~{IRQ3}, 130 FB_A19, 131 FB_A18, 132 FB_A17, 133 FB_A16, 134 VSS (power), 135 VDD (power), 136 FB_A15, 137 ~{FB_OE}, 138 FB_D7, 139 FB_D6, 140 FB_D5, 141 ~{RSTIN}, 142 ~{RSTOUT}, 143 CLKMOD0, 144 CLKMOD1

## MCP6L91T-E/OT
designator U?  value MCP6L91  (hidden comment: MCP6L91T-E/OT)
Comparateur de tension, simple, Vs=+1.8~5.5V, CMOS, I/O Rail-to-Rail, CMS; Creation: PDP (03/09/2012); Boitier: SOT23_5L; Remarque: {Remarque}; Coeff: 1; Fabricant: Microchip; ComponentLink1URL: O:\_Documentation\Datasheets\MicroChip\MCP6L91R.pdf; ComponentLink2URL: o:\_Documentation\Datasheets\_BOITIERS\ACTIF_CMS\SOT\SOT_23_5P_(Schneider).pdf; Config: *; ComponentLink1Description: Datasheet; ComponentLink2Description: Datasheet Boitier; Ref Fab: MCP6L91T-E/OT; Supplier 1: Mouser; Supplier Part Number 1: 579-MCP6L91T-E/OT; Supplier 2: Farnell; Supplier Part Number 2: 1715865
footprint SOT23_5L
pins: 1 OUTPUT (out), 2 Vss (power), 3 Vin+ (in), 4 Vin- (in), 5 Vdd (power)

## MF-RX012/250-0
designator F?, comment MF-RX012/250
Resettable Fuses - PPTC 0.12A 60V 4ohm Hold .12 Trip .16; Supplier 1: Digi-Key; Supplier Part Number 1: MF-RX012/250-0-ND
footprint MF-RX012-250-0 (Resettable Fuses - PPTC 0.12A 60V 4ohm Hold .12 Trip .16)
pins: 1, 2

## MICRO-MATE-N-LOK_WURTH_2X02_D
designator J?  value 66200421122  (hidden comment: MICRO-MATE-N-LOK_WURTH_2X02_D)
Embase type Micro Mate-n-Lok, e3mm, 4pts, droit, cont. étamés 20mR, 250V/5A, Iso 1500V, -40/+105°C; Creation: LJ (01/08/12); Boitier: Micro Mate-n-Lok 4 D; Remarque: {Remarque}; Fabricant: Wurth Elektronik; Coeff: 1; Ref Fab: 66200421122; ComponentLink1URL: o:\_Documentation\Datasheets\; ComponentLink2URL: o:\_Documentation\Datasheets\; Config: *; ComponentLink1Description: Datasheet; ComponentLink2Description: Datasheet Boitier
footprint MICRO-MATE-N-LOK_2X02_D_3-794630-4
footprint MICRO-MATE-N-LOK_WURTH+TYCO_2X02_D
pins: 1, 2, 3, 4

## MIRE_PICK-N-PLACE
designator MIR?  (value not drawn)
Mire pour machine de placement CMS "Pick'n Place"; Creation: LJ (25/10/12); Config: NC; Coeff: 0; Value: *
footprint MIRE_PICK-N-PLACE_D1MM_VE3MM

## MMBD1203
designator D?
Diode de Redressement double, en série, Vrrm=100V, If=200mA, Vf=1V, rapide (trr=4ns), CMS; Creation: LJ (28/04/11); Reference: 001730/00; Boitier: SOT23_3L; Remarque: {Remarque}; Coeff: 1; Fabricant: Fairchild; ComponentLink1URL: o:\_Documentation\Datasheets\Fairchild\MMBD1201-2-3-4-5.pdf; ComponentLink2URL: o:\_Documentation\Datasheets\_BOITIERS\ACTIF_CMS\SOT\SOT_23_3P_(Schneider).PDF; Config: *; ComponentLink1Description: Datasheet; ComponentLink2Description: Datasheet Boitier; Supplier 1: Farnell; Supplier 2: Mouser; Supplier Part Number 1: 1700901; Supplier Part Number 2: 512-MMBD1203; Ref Fab: MMBD1203; Value: MMBD1203
footprint SOT23_3L_ReflowSoldering
footprint SOT23_3L_WaveSoldering
pins: 1, 2, 3
1 alternate drawing of the same symbol

## MMBT5551LT1G
designator T?
Transistor NPN, Vce=160V, Ic=60mA, 0.225W, hfe=30~250, -55/+150°C, CMS; Creation: CHD; Reference: 000474/00; Boitier: SOT23_3L; Remarque: {Remarque}; Coeff: 1; Fabricant: ON Semiconductor; Verification: *; ComponentLink1URL: o:\_Documentation\Datasheets\ON_Semiconductors\MMBT5550LT1.pdf; ComponentLink2URL: O:\_Documentation\Datasheets\_BOITIERS\ACTIF_CMS\SOT & TSOT\SOT23_3_(Schneider).pdf; Config: *; ComponentLink1Description: Datasheet; Supplier 1: Farnell; Supplier 2: Mouser; Ref Fab: MMBT5551LT1G; Value: MMBT5551LT1G; Supplier Part Number 1: 1459109; Supplier Part Number 2: 863-MMBT5551LT1G; ComponentLink2Description: Datasheet Boitier
footprint SOT23_3L_ReflowSoldering
footprint SOT23_3L_WaveSoldering
pins: 1 B, 2 E, 3 C

## NJD1718T4G
designator T?
Transistor PNP, Vce=50V, Ic=3A, 15W, hfe=40~240, -65/+150°C, CMS; Creation: PDP (19/09/12); Boitier: DPAK; Remarque: {Remarque}; Coeff: 1; Fabricant: ON Semiconductor; ComponentLink1URL: o:\_Documentation\Datasheets\ON_Semiconductors\NJD1718-D.PDF; Config: *; ComponentLink1Description: Datasheet; ComponentLink2Description: Datasheet Boitier; Supplier 1: Mouser; Supplier Part Number 1: 863-NJD1718T4G; Ref Fab: NJD1718T4G; Value: NJD1718T4G
footprint DPAK_Specifique_1 (2.6 isolation)
pins: 1 B, 2 C, 3 E

## NJD1718T4G_1
designator T?, comment NJD1718T4G
Transistor PNP, Vce=50V, Ic=3A, 15W, hfe=40~240, -65/+150°C, CMS; Creation: PDP (19/09/12); Boitier: DPAK; Remarque: {Remarque}; Coeff: 1; Fabricant: ON Semiconductor; ComponentLink1URL: o:\_Documentation\Datasheets\ON_Semiconductors\NJD1718-D.PDF; Config: *; ComponentLink1Description: Datasheet; ComponentLink2Description: Datasheet Boitier; Supplier 1: Mouser; Supplier Part Number 1: 863-NJD1718T4G; Ref Fab: NJD1718T4G; Value: NJD1718T4G
footprint DPAK_Specifique_1 (2.6 isolation)
pins: 1 B, 2 C, 3 E

## NOTE_POUR_NOMENCLATURE_COMP
designator NOTE?  value F5  (hidden comment: NOTE_POUR_NOMENCLATURE_COMP)
Coucher F5 pour limiter la hauteur; Creation: LJ; Verification: LJ (11/01/05); Remarque: Dans la description NE PAS UTILISER LA TOUCHE ENTREE ! Sinon erreur lors du traitement de la nomenclature !; Coeff: 1; Reference: *; Boitier: *; Fabricant: *; Ref Fab: *; ComponentLink1URL: \\SRV_backup\datasheet\; ComponentLink2URL: \\SRV_backup\datasheet\_BOITIERS\; Config: *; ComponentLink1Description: Datasheet; ComponentLink2Description: Datasheet Boitier
footprint NULL
text: pour composants

## NTD2955G
designator T?
Transistor Mosfet P, Vdss=60V, Id=12A, Rdson=0.155R, -55/+175°C, CMS; Boitier: DPAK; Creation: PDP (13/07/12); Coeff: 1; Fabricant: ON Semiconductor; Verification: *; ComponentLink1URL: O:\_Documentation\Datasheets\ON_Semiconductors\NTD2955.PDF; ComponentLink2URL: o:\_Documentation\Datasheets\_BOITIERS\ACTIF_CMS\; Config: *; ComponentLink1Description: Datasheet; Ref Fab: NTD2955G; Supplier 1: Farnell; Supplier Part Number 1: 2101431; Supplier 2: Mouser; Supplier Part Number 2: 863-NTD2955G; ComponentLink2Description: Datasheet Boitier; Value: NTD2955G
footprint DPAK_Specifique_1 (2.6 isolation)
pins: 1 G, 2 D, 3 S

## NTMS4801N
designator T?
Transistor MOSN logique, Vdss=30V, Id=12A, Rdson=0.012R, CMS; Boitier: SO-8; Remarque: {Remarque}; Creation: PDP (20/09/12); Fabricant: ON Semiconductor; Ref Fab: NTMS4801NR2G; Coeff: 1; ComponentLink1URL: o:\_Documentation\Datasheets\; ComponentLink2URL: o:\_Documentation\Datasheets\_BOITIERS\ACTIF_CMS\; Config: *; ComponentLink1Description: O:\_Documentation\Datasheets\ON_Semiconductors\NTMS4801N-D.PDF; ComponentLink1Description: Datasheet; Value: NTMS4801N; Supplier 1: Mouser; Supplier Part Number 1: 863-NTMS4801NR2G; ComponentLink2Description: Datasheet Boitier
footprint SOIC_08_E1,27_L150_ReflowSoldering
pins: 1 S, 2 S, 3 S, 4 G, 5 D, 6 D, 7 D, 8 D